# Altium schematic symbol library Atmel.SCHLIB: 3 symbols
Pins are listed as number, name and electrical type; pins without a type are passive.

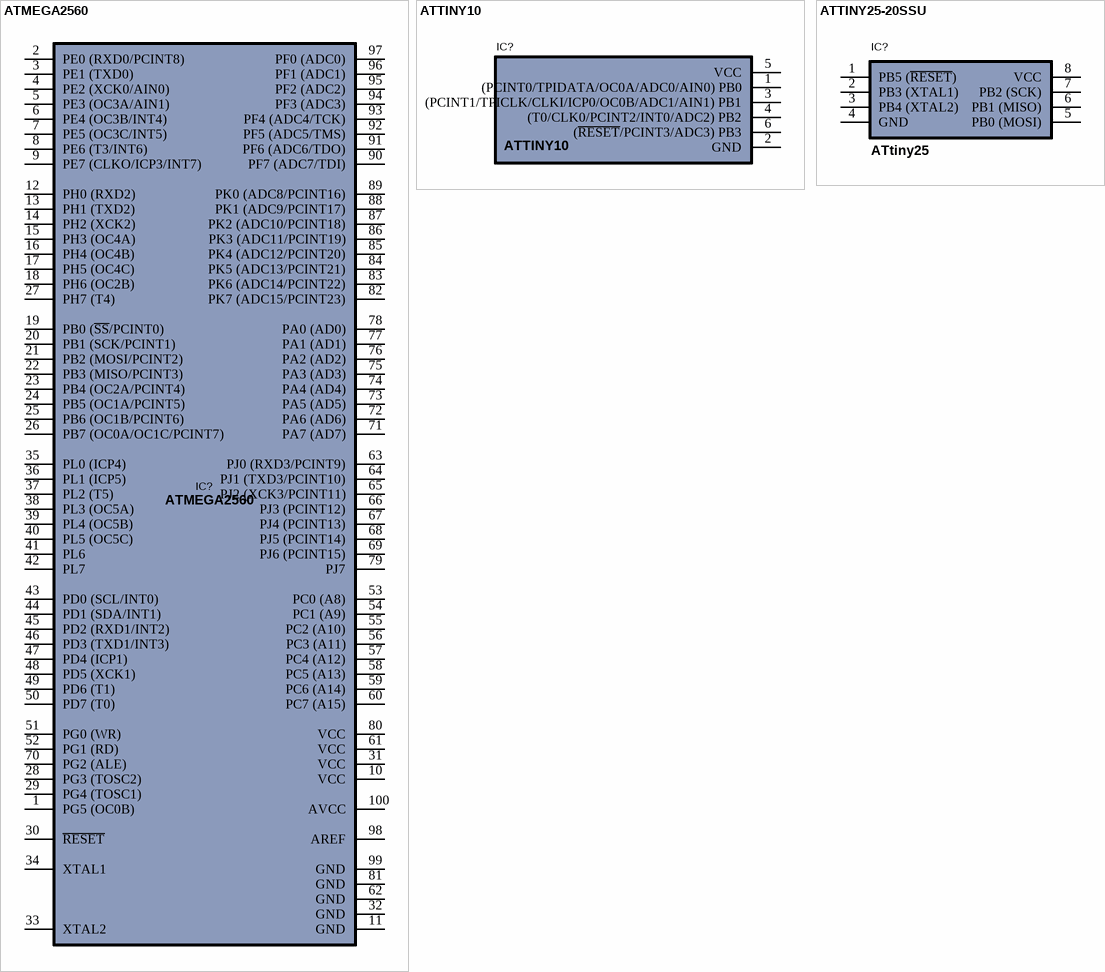
[diagram p0: symbols ATMEGA2560 to ATTINY25-20SSU]

## ATMEGA2560
designator IC?
ATMEGA2560 Microcontroller
pins: 1 PG5 (OC0B), 2 PE0 (RXD0/PCINT8), 3 PE1 (TXD0), 4 PE2 (XCK0/AIN0), 5 PE3 (OC3A/AIN1), 6 PE4 (OC3B/INT4), 7 PE5 (OC3C/INT5), 8 PE6 (T3/INT6), 9 PE7 (CLKO/ICP3/INT7), 10 VCC, 11 GND, 12 PH0 (RXD2), 13 PH1 (TXD2), 14 PH2 (XCK2), 15 PH3 (OC4A), 16 PH4 (OC4B), 17 PH5 (OC4C), 18 PH6 (OC2B), 19 PB0 (~{SS}/PCINT0), 20 PB1 (SCK/PCINT1), 21 PB2 (MOSI/PCINT2), 22 PB3 (MISO/PCINT3), 23 PB4 (OC2A/PCINT4), 24 PB5 (OC1A/PCINT5), 25 PB6 (OC1B/PCINT6), 26 PB7 (OC0A/OC1C/PCINT7), 27 PH7 (T4), 28 PG3 (TOSC2), 29 PG4 (TOSC1), 30 ~{RESET}, 31 VCC, 32 GND, 33 XTAL2, 34 XTAL1, 35 PL0 (ICP4), 36 PL1 (ICP5), 37 PL2 (T5), 38 PL3 (OC5A), 39 PL4 (OC5B), 40 PL5 (OC5C), 41 PL6, 42 PL7, 43 PD0 (SCL/INT0), 44 PD1 (SDA/INT1), 45 PD2 (RXD1/INT2), 46 PD3 (TXD1/INT3), 47 PD4 (ICP1), 48 PD5 (XCK1), 49 PD6 (T1), 50 PD7 (T0), 51 PG0 (WR), 52 PG1 (RD), 53 PC0 (A8), 54 PC1 (A9), 55 PC2 (A10), 56 PC3 (A11), 57 PC4 (A12), 58 PC5 (A13), 59 PC6 (A14), 60 PC7 (A15), 61 VCC, 62 GND, 63 PJ0 (RXD3/PCINT9), 64 PJ1 (TXD3/PCINT10), 65 PJ2 (XCK3/PCINT11), 66 PJ3 (PCINT12), 67 PJ4 (PCINT13), 68 PJ5 (PCINT14), 69 PJ6 (PCINT15), 70 PG2 (ALE), 71 PA7 (AD7), 72 PA6 (AD6), 73 PA5 (AD5), 74 PA4 (AD4), 75 PA3 (AD3), 76 PA2 (AD2), 77 PA1 (AD1), 78 PA0 (AD0), 79 PJ7, 80 VCC, 81 GND, 82 PK7 (ADC15/PCINT23), 83 PK6 (ADC14/PCINT22), 84 PK5 (ADC13/PCINT21), 85 PK4 (ADC12/PCINT20), 86 PK3 (ADC11/PCINT19), 87 PK2 (ADC10/PCINT18), 88 PK1 (ADC9/PCINT17), 89 PK0 (ADC8/PCINT16), 90 PF7 (ADC7/TDI), 91 PF6 (ADC6/TDO), 92 PF5 (ADC5/TMS), 93 PF4 (ADC4/TCK), 94 PF3 (ADC3), 95 PF2 (ADC2), 96 PF1 (ADC1), 97 PF0 (ADC0), 98 AREF, 99 GND, 100 AVCC

## ATTINY10
designator IC?
ATTINY10 Microcontroller
pins: 1 (PCINT0/TPIDATA/OC0A/ADC0/AIN0) PB0, 2 GND, 3 (PCINT1/TPICLK/CLKI/ICP0/OC0B/ADC1/AIN1) PB1, 4 (T0/CLK0/PCINT2/INT0/ADC2) PB2, 5 VCC, 6 (~{RESET}/PCINT3/ADC3) PB3

## ATTINY25-20SSU
designator IC?, comment ATTINY10  (value not drawn)
8bit Microcontroller; Manufacturer 1: Atmel; Manufacturer Part Number 1: ATTINY25-20SSU; Supplier 1: Farnell; Supplier Part Number 1: 1636951; Verified: NO
footprint SOIC127P700X175-8N (SOIC8)
pins: 1 PB5 (~{RESET}), 2 PB3 (XTAL1), 3 PB4 (XTAL2), 4 GND, 5 PB0 (MOSI), 6 PB1 (MISO), 7 PB2 (SCK), 8 VCC
text: ATtiny25